# EAGLE library part THS3202_DGN_8 (library Texas Instruments)
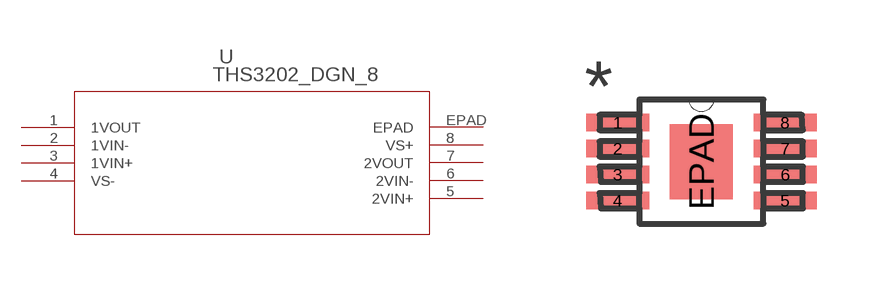
[diagram p17: symbol with the pads of DGN8_1P89X1P57; footprint DGN8_1P89X1P57]

Designator prefix U

## THS3202_DGN_8 (DATASHEETURL: http://www.ti.com/lit/gpn/THS3202; DESCRIPTION: 2GHz Current Feedback Amplifier; FAMILY_NAME: CURRENT FEEDBACK; GENERIC_PART_NUMBER: THS3202; INDUSTRY_STD_PKG_TYPE: MSOP-PowerPAD; MANUFACTURER: Texas Instruments; MANUFACTURER_PART_NUMBER: ths3202_dgn_8; PACKAGE_DESIGNATOR: DGN; PIN_COUNT: 8; VENDOR: Texas Instruments)  [DGN8_1P89X1P57]
1  1VOUT  out
2  1VIN-  in
3  1VIN+  in
4  VS-  pwr
5  2VIN+  in
6  2VIN-  in
7  2VOUT  out
8  VS+  pwr
EPAD  EPAD  pas

## Footprint DGN8_1P89X1P57 (pad centres in mm)
smd 1.575 x 0.432: 1 -2.095,0.975; 2 -2.095,0.325; 3 -2.095,-0.325; 4 -2.095,-0.975; 5 2.095,-0.975; 6 2.095,-0.325; 7 2.095,0.325; 8 2.095,0.975
smd 1.575 x 1.88: EPAD 0,0